# Altium schematic symbol library SnapEDAsch.SchLib: 1 symbol
Pins are listed as number, name and electrical type; pins without a type are passive.

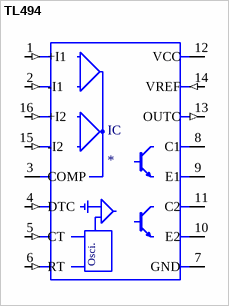
[diagram p0: symbol TL494]

## TL494
designator IC
Buck, Boost, Flyback, Forward Converter, Full-Bridge, Half-Bridge, Push-Pull Regulator Positive Output Step-Up, Step-Down, Step-Up/Step-Down DC-DC Controller IC 16-SOIC; MF: ON Semiconductor; MP: TL494; Price: None; Availability: Unavailable; Package: SOIC-16 ON Semiconductor; SnapEDA_Link: https://www.snapeda.com/parts/TL494/ON%20Semiconductor/view-part/4299620/?ref=snap; Value: *
footprint SO16F
pins: 1 +I1 (in), 2 -I1 (in), 3 COMP, 4 DTC (in), 5 CT (in), 6 RT (in), 7 GND (power), 8 C1, 9 E1, 10 E2, 11 C2, 12 VCC (power), 13 OUTC (out), 14 VREF (in), 15 -I2 (in), 16 +I2 (in)
text: Osci.